# EAGLE library part SIM68M (library electronic-labs)
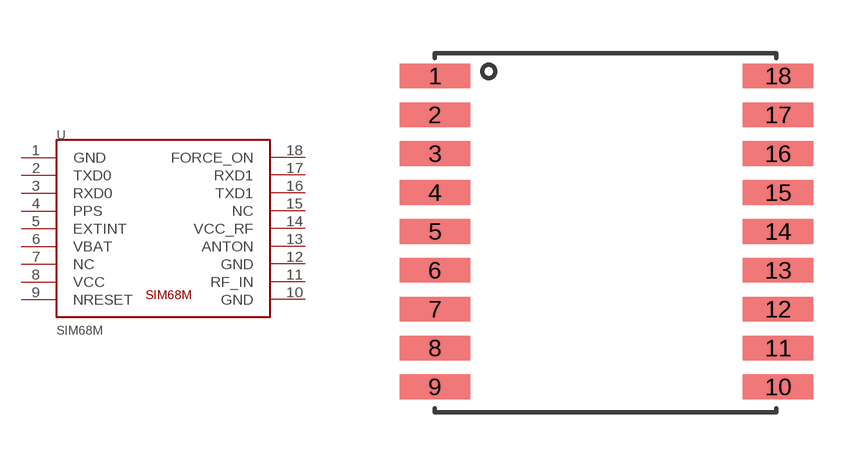
[diagram p17: symbol with the pads of SIM68M; footprint SIM68M]

Designator prefix U

## SIM68M  [SIM68M]
1  GND  pwr
2  TXD0
3  RXD0
4  PPS
5  EXTINT
6  VBAT
7  NC  nc
8  VCC  pwr
9  NRESET
10  GND  pwr
11  RF_IN
12  GND  pwr
13  ANTON
14  VCC_RF
15  NC  nc
16  TXD1
17  RXD1
18  FORCE_ON

## Footprint SIM68M (pad centres in mm)
smd 2 x 0.7: 1 -5.08,3.81; 2 -5.08,2.71; 3 -5.08,1.61; 4 -5.08,0.51; 5 -5.08,-0.59; 6 -5.08,-1.69; 7 -5.08,-2.79; 8 -5.08,-3.89; 9 -5.08,-4.99; 10 4.62,-4.99; 11 4.62,-3.89; 12 4.62,-2.79; 13 4.62,-1.69; 14 4.62,-0.59; 15 4.62,0.51; 16 4.62,1.61; 17 4.62,2.71; 18 4.62,3.81